# Altium schematic symbol library TEST_PT.SchLib: 1 symbol
Pins are listed as number, name and electrical type; pins without a type are passive.

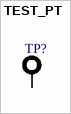
[diagram p0: symbol TEST_PT]

## TEST_PT
designator TP?  (value not drawn)
pins: 0